# Altium footprint library TEP_243-Altium_Library.PcbLib: 103 footprints (part 3 of 7)
Each footprint in its own frame and in the unit in brackets; x right, y up, seen from the top. Pads: shape width x height; smd on the part's side, far side on the other; paste and mask are expansions set on the pad; w line width, h text height; cw(c..) or ccw(c..) is an arc to the next point about the centre after c.
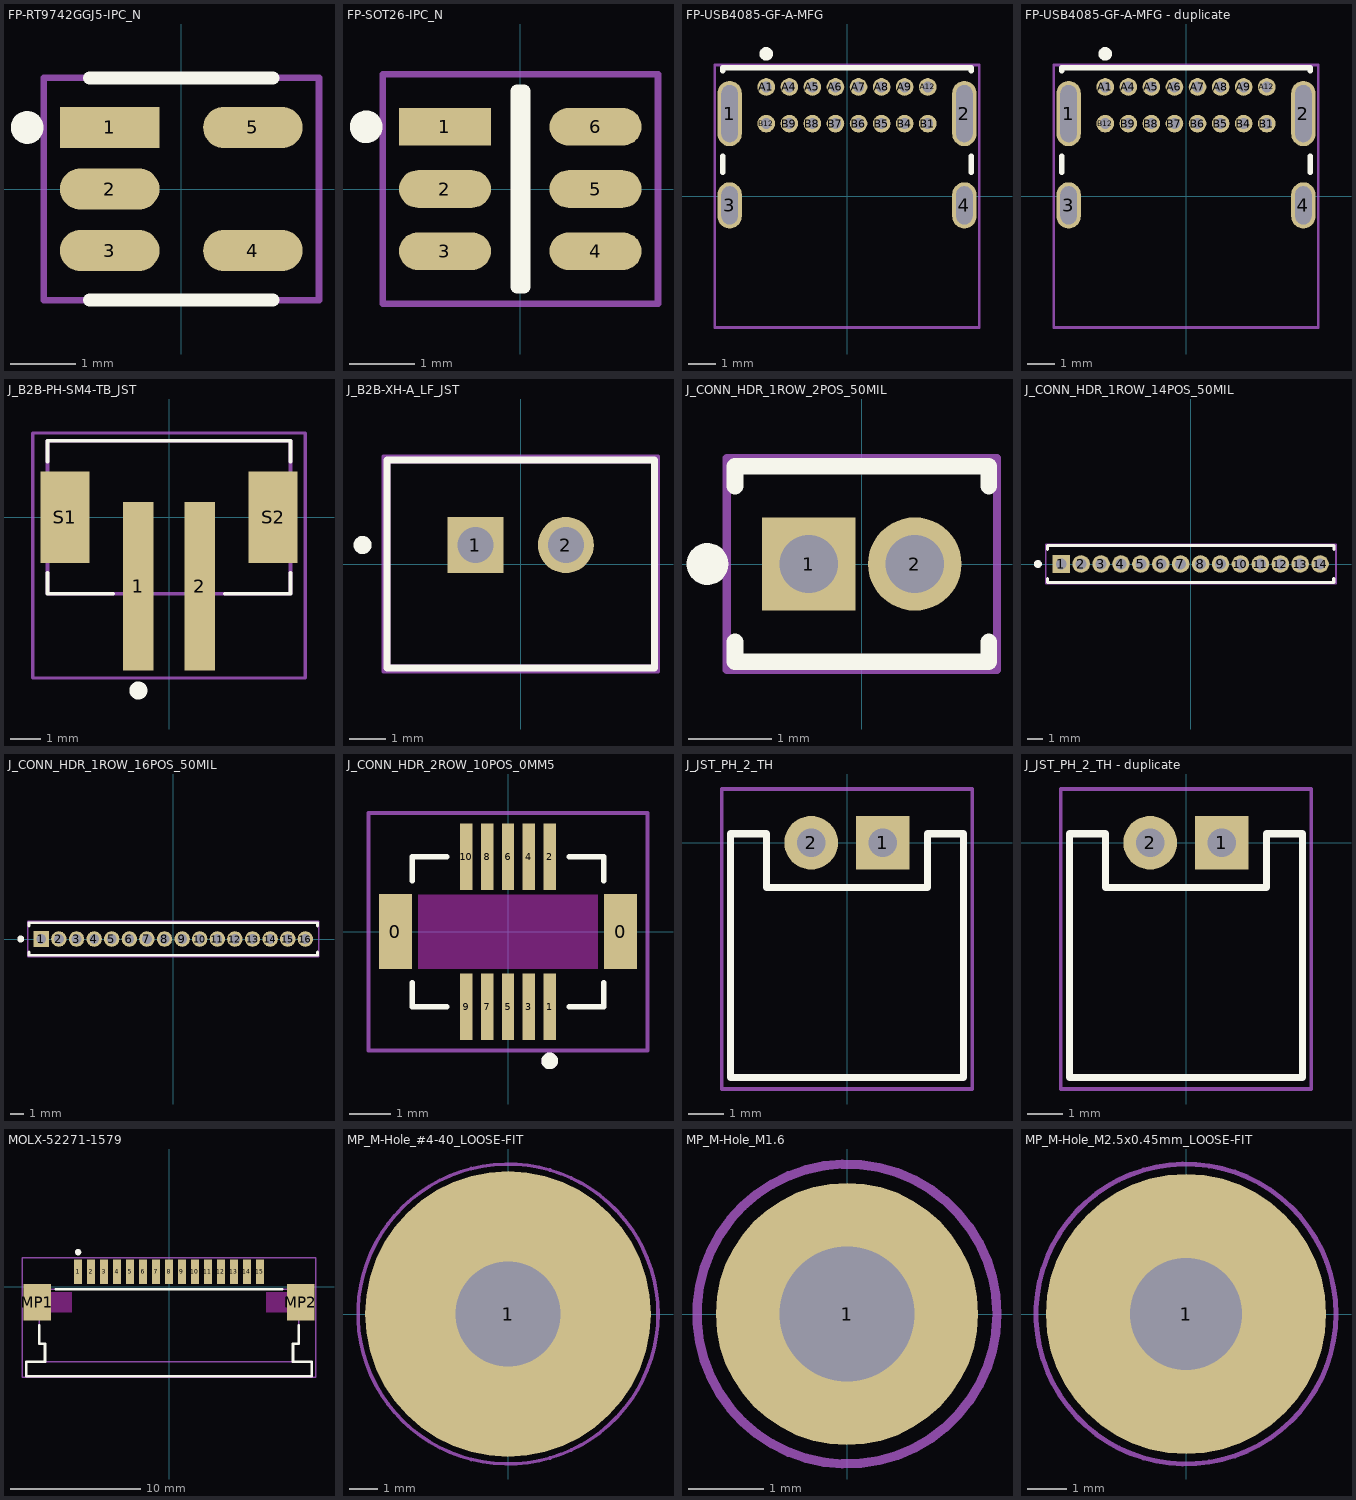
[diagram p2: the footprints below, top view; thin cyan lines are the x and y axes]

## FP-RT9742GGJ5-IPC_N [mm]
pads (5):
  rect 1.52x0.628 smd paste+0 mask+0: 1(-1.093,0.94)
  rrect100% 1.52x0.628 smd paste+0 mask+0: 2(-1.093,0) 3(-1.093,-0.94) 4(1.093,-0.94) 5(1.093,0.94)
Top Overlay:
  circle w0.25: c-2.353,0.94 r0.125
  lines w0.2: -1.398,-1.698 1.398,-1.698 ; -1.398,1.698 1.398,1.698
Top Courtyard:
  lines w0.1: -2.103,-1.698 2.103,-1.698 2.103,1.698 -2.103,1.698 -2.103,-1.698
Top Designator:
  text ".Designator" at -1.49,-0.226 h1
3D body "IC_Richtek_RT9742GGJ5_eec.STEP": height 0.25, standoff 0, extent -2.103,-1.698 2.103,1.698

## FP-SOT26-IPC_N [mm]
pads (6):
  rect 1.407x0.576 smd paste+0 mask+0: 1(-1.151,0.95)
  rrect100% 1.407x0.576 smd paste+0 mask+0: 2(-1.151,0) 3(-1.151,-0.95) 4(1.151,-0.95) 5(1.151,0) 6(1.151,0.95)
Top Overlay:
  circle w0.25: c-2.354,0.95 r0.125
  lines w0.2: -0.053,-1.5 0.053,-1.5 0.053,1.5 -0.053,1.5 -0.053,-1.5
Top Courtyard:
  lines w0.1: -2.104,-1.75 -2.104,1.75 2.104,1.75 2.104,-1.75 -2.104,-1.75
Top Designator:
  text ".Designator" at -1.727,-0.339 h1.5
3D body "IC_Diodes_Inc_AP22653W6-7_eec.STEP": height 1.45, standoff 0, extent -1.4,-1.45 1.4,1.45

## FP-USB4085-GF-A-MFG [mm]
pads (20):
  rrect100% 0.9x2.4 hole 2.1 slot 0.6 at 0 deg paste-2539.97 mask+0: 1(-4.325,3.045) 2(4.325,3.045)
  rrect100% 0.9x1.7 hole 1.4 slot 0.6 at 0 deg paste-2539.97 mask+0: 3(-4.325,-0.335) 4(4.325,-0.335)
  round 0.65 hole 0.4 paste-2539.97 mask+0: A1(-2.975,4.025) A4(-2.125,4.025) A5(-1.275,4.025) A6(-0.425,4.025) A7(0.425,4.025) A8(1.275,4.025) A9(2.125,4.025) A12(2.975,4.025) B1(2.975,2.675) B4(2.125,2.675) B5(1.275,2.675) B6(0.425,2.675) B7(-0.425,2.675) B8(-1.275,2.675) B9(-2.125,2.675) B12(-2.975,2.675)
Top Overlay:
  circle w0.25: c-2.975,5.245 r0.125
  lines w0.2: -4.575,0.89 -4.575,1.47 ; -4.575,4.62 -4.575,4.735 4.575,4.735 4.575,4.62 ; 4.575,0.89 4.575,1.47
Top Courtyard:
  lines w0.1: -4.875,-4.835 4.875,-4.835 ; -4.875,-4.835 -4.875,4.835 ; -4.875,-4.835 4.875,-4.835 ; -4.875,-4.835 -4.875,4.835 ; -4.875,4.835 4.875,4.835 ; -4.875,4.835 4.875,4.835 ; 4.875,-4.835 4.875,4.835 ; 4.875,-4.835 4.875,4.835
Top Designator:
  text ".Designator" at -2.489,-0.212 h1.5
3D body "Conn_GCT_USB4085-GF-A_eec.STEP": height 0.25, standoff 0, extent -4.875,-4.835 4.875,4.835

## FP-USB4085-GF-A-MFG - duplicate [mm]
pads (20):
  rrect100% 0.9x2.4 hole 2.1 slot 0.6 at 0 deg paste-2539.97 mask+0: 1(-4.325,3.045) 2(4.325,3.045)
  rrect100% 0.9x1.7 hole 1.4 slot 0.6 at 0 deg paste-2539.97 mask+0: 3(-4.325,-0.335) 4(4.325,-0.335)
  round 0.65 hole 0.4 paste-2539.97 mask+0: A1(-2.975,4.025) A4(-2.125,4.025) A5(-1.275,4.025) A6(-0.425,4.025) A7(0.425,4.025) A8(1.275,4.025) A9(2.125,4.025) A12(2.975,4.025) B1(2.975,2.675) B4(2.125,2.675) B5(1.275,2.675) B6(0.425,2.675) B7(-0.425,2.675) B8(-1.275,2.675) B9(-2.125,2.675) B12(-2.975,2.675)
Top Overlay:
  circle w0.25: c-2.975,5.245 r0.125
  lines w0.2: -4.575,0.89 -4.575,1.47 ; -4.575,4.62 -4.575,4.735 4.575,4.735 4.575,4.62 ; 4.575,0.89 4.575,1.47
Top Courtyard:
  lines w0.1: -4.875,-4.835 4.875,-4.835 ; -4.875,-4.835 -4.875,4.835 ; -4.875,-4.835 4.875,-4.835 ; -4.875,-4.835 -4.875,4.835 ; -4.875,4.835 4.875,4.835 ; -4.875,4.835 4.875,4.835 ; 4.875,-4.835 4.875,4.835 ; 4.875,-4.835 4.875,4.835
Top Designator:
  text ".Designator" at -2.489,-0.212 h1.5
3D body "Conn_GCT_USB4085-GF-A_eec.STEP": height 0.25, standoff 0, extent -4.875,-4.835 4.875,4.835

## J_B2B-PH-SM4-TB_JST [mm] "CONN HEADER SMD 2POS 2MM STRAIGHT"
height 6.6
pads (4):
  rect 1x5.5 smd: 1(-1,-2.25) 2(1,-2.25)
  rect 1.6x3 smd: S1(-3.4,0) S2(3.4,0)
Top Overlay:
  circle w0.3: c-1,-5.66 r0.145
  lines w0.127: -3.975,-1.82 -3.975,-2.5 -1.82,-2.5 ; -3.975,1.82 -3.975,2.5 3.975,2.5 3.975,1.82 ; 1.82,-2.5 3.975,-2.5 3.975,-1.82
Top Courtyard:
  lines w0.1: -4.45,-5.25 -4.45,2.75 4.45,2.75 4.45,-5.25 -4.45,-5.25
Top Designator:
  text ".Designator" at -3.364,-0.337 h1.5
Top 3D Body:
  lines w0.127: -3.975,-2.5 -3.975,2.5 3.975,2.5 3.975,-2.5 -3.975,-2.5
3D body "step_temp.STEP": height 6.75, standoff 0, extent -3.975,-4.5 3.975,2.5

## J_B2B-XH-A_LF_JST [mm]
pads (2):
  rect 1.55x1.55 hole 1 paste-2539.97 mask+0: 1(-1.25,0.525)
  round 1.55 hole 1 paste-2539.97 mask+0: 2(1.25,0.525)
Top Overlay:
  circle w0.25: c-4.375,0.525 r0.125
  lines w0.2: -3.7,-2.875 3.7,-2.875 3.7,2.875 -3.7,2.875 -3.7,-2.875
Top Courtyard:
  lines w0.1: -3.8,-2.975 3.8,-2.975 3.8,2.975 -3.8,2.975 -3.8,-2.975
Top Designator:
  text ".Designator" at -1.905,0.315 h1
Top 3D Body:
  lines w0.2: -3.7,-2.875 3.7,-2.875 3.7,2.875 -3.7,2.875 -3.7,-2.875
3D body "Conn_JST_B2B-XH-A_LF_SN_eec.STEP": height 0.25, standoff 0, extent -3.8,-2.975 3.8,2.975

## J_CONN_HDR_1ROW_2POS_50MIL [mm]
height 8.58
pads (2):
  rect 1.12x1.12 hole 0.7 paste-2539.97 mask+0: 1(-0.635,0)
  round 1.12 hole 0.7 paste-2539.97 mask+0: 2(0.635,0)
Top Overlay:
  circle w0.25: c-1.85,0 r0.125
  lines w0.2: -1.52,-0.935 -1.52,-1.17 1.52,-1.17 1.52,-0.935 ; -1.52,0.935 -1.52,1.17 1.52,1.17 1.52,0.935
Top Courtyard:
  lines w0.1: -1.62,-1.27 -1.62,1.27 1.62,1.27 1.62,-1.27 -1.62,-1.27
Top Designator:
  text ".Designator" at 0,0.188 h1
3D body "Conn_Sullins_GRPB021VWVN-RC_eec.STEP": height 4.4, standoff -2.3, extent -1.275,-1.071 1.265,1.07

## J_CONN_HDR_1ROW_14POS_50MIL [mm]
height 8.58
pads (14):
  rect 1.12x1.12 hole 0.7 paste-2539.97 mask+0: 1(-8.255,0)
  round 1.12 hole 0.7 paste-2539.97 mask+0: 2(-6.985,0) 3(-5.715,0) 4(-4.445,0) 5(-3.175,0) 6(-1.905,0) 7(-0.635,0) 8(0.635,0) 9(1.905,0) 10(3.175,0) 11(4.445,0) 12(5.715,0) 13(6.985,0) 14(8.255,0)
Top Overlay:
  circle w0.25: c-9.74,0 r0.125
  lines w0.2: -9.14,-0.935 -9.14,-1.17 9.123,-1.17 9.123,-0.935 ; -9.14,0.935 -9.14,1.17 9.137,1.17 9.137,0.935
Top Courtyard:
  lines w0.1: -9.24,-1.27 9.27,-1.27 9.27,1.27 -9.24,1.27 -9.24,-1.27
Top Designator:
  text ".Designator" at -2.25,0.25 h1
3D body "GRPB141VWVN-RC.STEP": height 3.99, standoff -2.31, extent -8.89,-1.067 8.89,1.067

## J_CONN_HDR_1ROW_16POS_50MIL [mm]
height 8.58
pads (16):
  rect 1.12x1.12 hole 0.7 paste-2539.97 mask+0: 1(-9.525,0)
  round 1.12 hole 0.7 paste-2539.97 mask+0: 2(-8.255,0) 3(-6.985,0) 4(-5.715,0) 5(-4.445,0) 6(-3.175,0) 7(-1.905,0) 8(-0.635,0) 9(0.635,0) 10(1.905,0) 11(3.175,0) 12(4.445,0) 13(5.715,0) 14(6.985,0) 15(8.255,0) 16(9.525,0)
Top Overlay:
  circle w0.25: c-11.01,0 r0.125
  lines w0.2: -10.41,-0.935 -10.41,-1.17 10.41,-1.17 10.41,-0.935 ; -10.41,0.935 -10.41,1.17 10.41,1.17 10.41,0.935
Top Courtyard:
  lines w0.1: -10.51,-1.27 10.51,-1.27 10.51,1.27 -10.51,1.27 -10.51,-1.27
Top Designator:
  text ".Designator" at 0,0.188 h1
3D body "Conn_Sullins_GRPB161VWVN-RC_eec.STEP": height 4.4, standoff -2.3, extent -10.16,-1.072 10.16,1.07

## J_CONN_HDR_2ROW_10POS_0MM5 [mm] "CONN HIROSE DF12NB"
pads (12):
  rect 0.8x1.8 smd: 0(-2.7,0) 0(2.7,0)
  rect 0.3x1.6 smd paste-2 mask+0.05: 1(1,-1.8) 2(1,1.8) 3(0.5,-1.8) 4(0.5,1.8) 5(0,-1.8) 6(0,1.8) 7(-0.5,-1.8) 8(-0.5,1.8) 9(-1,-1.8) 10(-1,1.8)
Top Layer keep-out:
  region: 2.159,-0.889 -2.159,-0.889 -2.159,0.889 2.159,0.889
Top Overlay:
  circle w0.2: c1,-3.1 r0.1
  lines w0.127: -2.3,-1.22 -2.3,-1.8 -1.47,-1.8 ; -2.3,1.22 -2.3,1.8 -1.47,1.8 ; 1.47,-1.8 2.3,-1.8 2.3,-1.22 ; 1.47,1.8 2.3,1.8 2.3,1.22
Top Paste:
  region: -0.86,-2.6 -1.14,-2.6 -1.14,-1.4 -0.86,-1.4
  region: -0.36,-2.6 -0.64,-2.6 -0.64,-1.4 -0.36,-1.4
  region: 1.14,-2.6 0.86,-2.6 0.86,-1.4 1.14,-1.4
  region: 0.64,-2.6 0.36,-2.6 0.36,-1.4 0.64,-1.4
  region: 0.14,-2.6 -0.14,-2.6 -0.14,-1.4 0.14,-1.4
  region: -0.86,1.4 -1.14,1.4 -1.14,2.6 -0.86,2.6
  region: -0.36,1.4 -0.64,1.4 -0.64,2.6 -0.36,2.6
  region: 1.14,1.4 0.86,1.4 0.86,2.6 1.14,2.6
  region: 0.64,1.4 0.36,1.4 0.36,2.6 0.64,2.6
  region: 0.14,1.4 -0.14,1.4 -0.14,2.6 0.14,2.6
Top Courtyard:
  lines w0.1: -3.35,-2.85 3.35,-2.85 3.35,2.85 -3.35,2.85 -3.35,-2.85
Top Designator:
  text ".Designator" at -1.905,0 h1
Top 3D Body:
  circle w0.2: c1,-3.1 r0.1
3D body "DF12NB(3.0)-10DS-0.5V(51).STEP": height 2.2, standoff 0, extent -2.8,-2.286 2.8,2.314

## J_JST_PH_2_TH [mm] "2mm 2Pin, TH, Right Angle, Wire to board"
pads (2):
  rect 1.5x1.5 hole 0.8 paste-2539.97 mask+0: 1(1,0)
  round 1.5 hole 0.8 paste-2539.97 mask+0: 2(-1,0)
Top Overlay:
  lines w0.2: -3.25,-6.55 3.25,-6.55 3.25,0.25 2.25,0.25 2.25,-1.25 -2.25,-1.25 -2.25,0.25 -3.25,0.25 -3.25,-6.55
Top Courtyard:
  lines w0.1: -3.5,-6.875 -3.5,1.5 3.5,1.5 3.5,-6.875 -3.5,-6.875
Top Designator:
  text ".Designator" at -3.114,-2.337 h1.5
3D body "S2B-PH-K-S.STEP": height 4.8, standoff -3.38, extent -2.95,-6.225 2.95,1.375

## J_JST_PH_2_TH - duplicate [mm] "2mm 2Pin, TH, Right Angle, Wire to board"
height 2.65
pads (2):
  rect 1.5x1.5 hole 0.8 paste-2539.97 mask+0: 1(1,0)
  round 1.5 hole 0.8 paste-2539.97 mask+0: 2(-1,0)
Top Overlay:
  lines w0.2: -3.25,-6.55 -3.25,0.25 -2.25,0.25 -2.25,-1.25 2.25,-1.25 2.25,0.25 3.25,0.25 3.25,-6.55 -3.25,-6.55
Top Courtyard:
  lines w0.1: -3.5,-6.875 -3.5,1.5 3.5,1.5 3.5,-6.875 -3.5,-6.875
Top Designator:
  text ".Designator" at -3.124,-3.387 h1.5
3D body "S2B-PH-K-S.STEP": height 4.8, standoff -3.38, extent -2.95,-6.225 2.95,1.375

## MOLX-52271-1579 [mm] "FPC Connector, 15-Leads, Right Angle, Pitch 1.0 mm, Mated Height 3.0 mm, SMT"
height 3.012
pads (17):
  rect 0.6x1.9 smd: 1(-7,1.175) 2(-6,1.175) 3(-5,1.175) 4(-4,1.175) 5(-3,1.175) 6(-2,1.175) 7(-1,1.175) 8(0,1.175) 9(1,1.175) 10(2,1.175) 11(3,1.175) 12(4,1.175) 13(5,1.175) 14(6,1.175) 15(7,1.175)
  rect 2.1x2.8 smd: MP1(-10.15,-1.175) MP2(10.15,-1.175)
Top Overlay:
  circle w0.25: c-7,2.675 r0.125
  lines w0.2: -10,-2.975 -10,-4.375 -9.55,-4.375 -9.55,-5.775 -11,-5.775 -11,-6.875 11,-6.875 11,-5.775 9.55,-5.775 9.55,-4.375 10,-4.375 10,-2.975 ; -8.7,-0.175 8.7,-0.175
Keep-Out Layer:
  region: -7.45,-0.375 -9.1,-0.375 -9.1,-1.975 -7.45,-1.975
  rectangle: 7.45,-1.975 9.1,-0.375
Top Courtyard:
  lines w0.1: -11.3,-6.975 -11.3,2.225 11.3,2.225 11.3,-6.975 -11.3,-6.975
Top Designator:
  text ".Designator" at -3.378,-1.99 h1.5
Top 3D Body:
  lines w0.1: -9.55,-5.775 -9.55,-4.375 -10,-4.375 -10,-0.175 10,-0.175 10,-4.375 9.55,-4.375 9.55,-5.775 ; -11,-6.875 11,-6.875 11,-5.775 -11,-5.775 -11,-6.875
3D body "522711590.stp": height 3.01, standoff 0.01, extent -11,-6.875 11,1.825

## MP_M-Hole_#4-40_LOOSE-FIT [mm] "Monting Hole #4-40 Loose Fit"
height 0.01
pads (1):
  round 10.1 hole 3.7 paste-2539.97: 1(0,0)
Top Courtyard:
  circle w0.125: c0,0 r5.3

## MP_M-Hole_M1.6 [mm] "Monting Hole M1.6"
height 0.01
pads (1):
  round 3.5 hole 1.8 paste-2539.97: 1(0,0)
Top Courtyard:
  circle w0.125: c0,0 r2

## MP_M-Hole_M2.5x0.45mm_LOOSE-FIT [mm] "Monting Hole M2.5x0.45mm LOOSE Fit"
height 0.01
pads (1):
  round 7.1 hole 2.85 paste-2539.97: 1(0,0)
Top Courtyard:
  circle w0.125: c0,0 r3.8